# Altium schematic symbol library SILICA_SCHLIB.SchLib: 303 symbols (part 2 of 4)
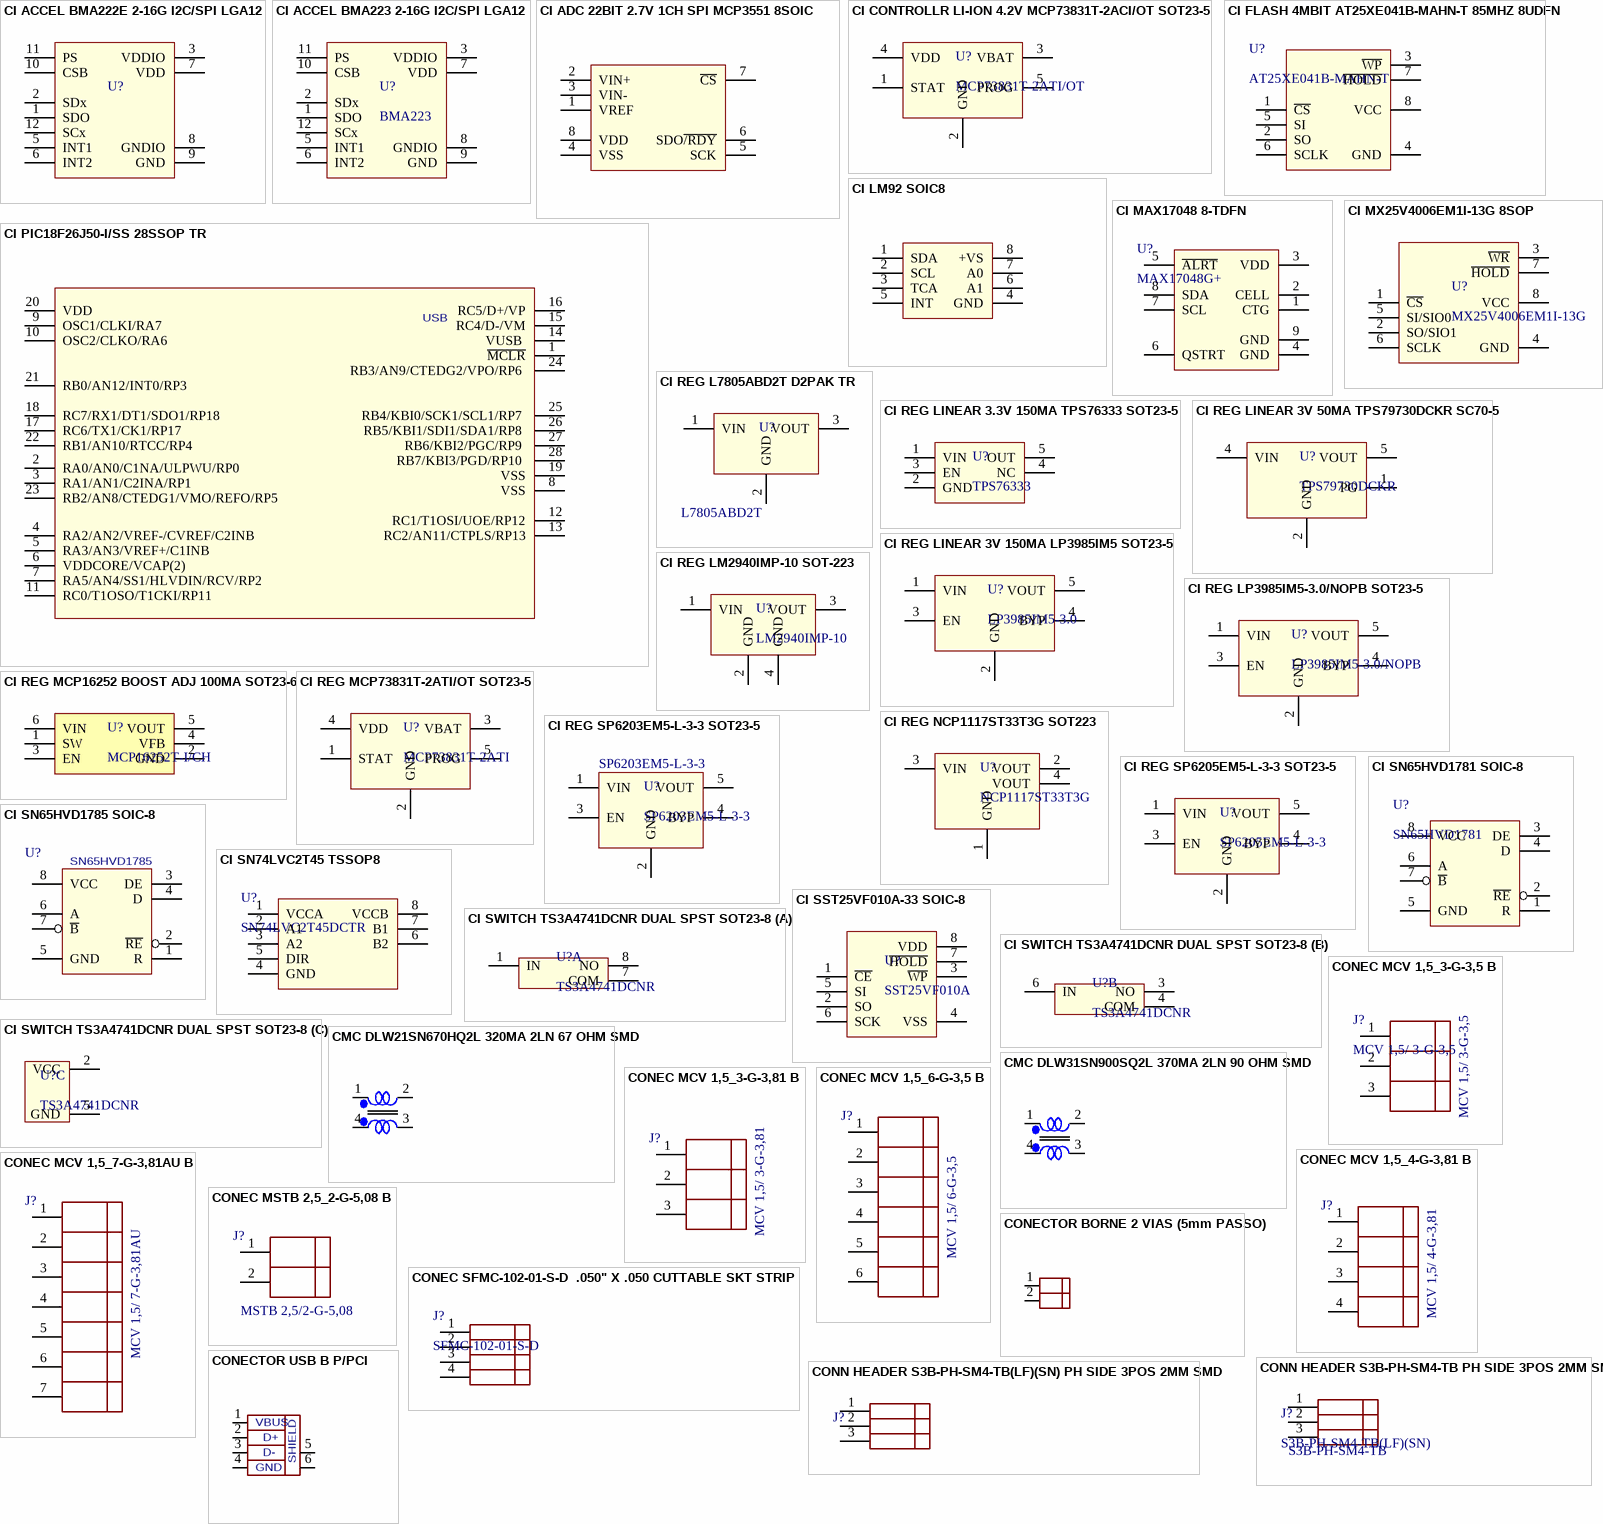
[diagram p10: symbols CI ACCEL BMA222E 2-16G I2C/SPI LGA12 to CONN HEADER S3B-PH-SM4-TB(LF)(SN) PH SIDE 3POS 2MM SMD]

## CMC DLW21SN670HQ2L 320MA 2LN 67 OHM SMD
designator L?, comment DLW21SN670HQ2L
Common Mode Choke Coil Wire Wound Type; Supplier 1: Digi-Key; Supplier 2: Digi-Key; Supplier 3: Digi-Key; Supplier Part Number 1: 490-5133-6-ND; Supplier Part Number 2: 490-5133-1-ND; Supplier Part Number 3: 490-5133-2-ND
footprint SMD_DLW21S (DLW21S Series (0805 Size))
pins: 1, 2, 3, 4

## CMC DLW31SN900SQ2L 370MA 2LN 90 OHM SMD
designator L?, comment DLW31SN900SQ2L
2 Line Common Mode Choke Surface Mount 90 Ohm @ 100MHz 370mA DCR 300 mOhm; Manufacturer 1: Hirose Electric Co Ltd; Manufacturer Part Number 1: U.FL-R-SMT-1(01); Supplier 1: Digi-Key; Supplier 2: Digi-Key; Supplier 3: Digi-Key; Supplier 4: Mouser; Supplier 5: Arrow; Supplier Part Number 5: DLW31SN900SQ2L; Supplier Part Number 4: 81-DLW31SN900SQ2L; Supplier Part Number 3: 490-1067-2-ND; Supplier Part Number 2: 490-1067-6-ND; Supplier Part Number 1: 490-1067-1-ND; Value: DLW31SN900SQ2L
footprint SMD_DLW31S (DLW31S Series)
pins: 1, 2, 3, 4

## CONEC MCV 1,5_3-G-3,5 B
designator J?, comment MCV 1,5/ 3-G-3,5
3 Position Terminal Block Header, Male Pins, Shrouded (4 Side) 0.138" (3.50mm) Vertical  Through Hole; Manufacturer 1: Phoenix Contact; Manufacturer Part Number 1: 1843619; TYPE: MCV 1,5/ 3-G-3,5
footprint MCV 1,5_3-G-3,5
pins: 1, 2, 3

## CONEC MCV 1,5_3-G-3,81 B
designator J?  TYPE: MCV 1,5/ 3-G-3,81  (hidden comment: *)
MANUFACTURER: PHOENIX CONTACT; PN: 1803439; PACKING: B; PACKAGE: MCV 1,5/ 3-G-3,81; Supplier 1: Digi-Key; Supplier Part Number 1: 277-1222-ND
footprint MCV 1,5_3-G-3,81
footprint MCV 1,5_3-G-3,81 THR
pins: 1, 2, 3

## CONEC MCV 1,5_4-G-3,81 B
designator J?  TYPE: MCV 1,5/ 4-G-3,81  (hidden comment: *)
MANUFACTURER: PHOENIX CONTACT; PN: 1803442; PACKING: B; PACKAGE: MCV 1,5/ 4-G-3,81; Supplier 1: Digi-Key; Supplier Part Number 1: 277-1223-ND
footprint MCV 1,5_4-G-3,81
footprint MCV 1,5_4-G-3,81 THR
pins: 1, 2, 3, 4

## CONEC MCV 1,5_6-G-3,5 B
designator J?  TYPE: MCV 1,5/ 6-G-3,5  (hidden comment: *)
MANUFACTURER: PHOENIX CONTACT; PN: 1843648; PACKING: B; PACKAGE: MCV 1,5/ 6-G-3,5; Supplier 1: Mouser; Supplier Part Number 1: 651-1843648
footprint MCV 1,5_6-G-3,5
footprint MCV 1,5_6-G-3,5 THR
pins: 1, 2, 3, 4, 5, 6

## CONEC MCV 1,5_7-G-3,81AU B
designator J?  TYPE: MCV 1,5/ 7-G-3,81AU  (hidden comment: *)
MANUFACTURER: PHOENIX CONTACT; PN: 1939895; PACKING: B; PACKAGE: MCV 1,5/ 7-G-3,81AU
footprint MCV 1,5_7-G-3,81
pins: 1, 2, 3, 4, 5, 6, 7

## CONEC MSTB 2,5_2-G-5,08 B
designator J?  TYPE: MSTB 2,5/2-G-5,08  (hidden comment: *)
MANUFACTURER: PHOENIX CONTACT; PN: 1759017; PACKING: B; PACKAGE: MSTB 2,5/2-G-5,08; Supplier 1: Digi-Key; Supplier Part Number 1: 277-1095-ND
footprint MSTB 2,5_2-G-5,08 (Footprint not found)
pins: 1, 2

## CONEC SFMC-102-01-S-D  .050" X .050 CUTTABLE SKT STRIP
designator J?, comment SFMC-102-01-S-D
4 Position Receptacle Connector  Through Hole; Manufacturer 1: Samtec Inc.; VALUE: SFMC-102-01-S-D; Manufacturer Part Number 1: SFMC-102-01-S-D; Supplier 1: Digi-Key; Supplier 2: Farnell; Supplier 3: Mouser; Supplier 4: Arrow Electronics Inc.; Supplier 5: Newark; Supplier Part Number 1: SAM9900-ND; Supplier Part Number 2: 2779535; Supplier Part Number 3: 200-SFMC10201SD; Supplier Part Number 4: SFMC-102-01-S-D; Supplier Part Number 5: 33AC3092
footprint SFMC-102-01-S-D
pins: 1, 2, 3, 4

## CONECTOR BORNE 2 VIAS (5mm PASSO)
designator J?, comment KRE-2T  (value not drawn)
CONECTOR BORNE 2 VIAS (5mm PASSO); METALTEX: BR02A
footprint BR11 METALTEX
pins: 1, 2

## CONECTOR USB B P/PCI
designator J?, comment USB-BN  (value not drawn)
CONECTOR USB B P/PCI; METALTEX: USB-BN
pins: 1, 2, 3, 4, 5, 6
text: VBUS; D+; D-; SHIELD; GND

## CONN HEADER S3B-PH-SM4-TB PH SIDE 3POS 2MM SMD
designator J?, comment S3B-PH-SM4-TB(LF)(SN)  value S3B-PH-SM4-TB
4 Position Socket Connector 0.031" (0.80mm) Surface Mount, Right Angle Tin; Supplier 1: Newark; Supplier 2: Farnell; Supplier 3: Digi-Key; Supplier 4: Digi-Key; Supplier 5: Digi-Key; Supplier 6: RSComponents; Supplier 7: RSComponents; Supplier 8: RSComponents; Supplier 9: Allied; Supplier 10: RSComponents; Supplier Part Number 1: 38K8071; Supplier Part Number 2: 9492623; Supplier Part Number 3: 455-1750-2-ND; Supplier Part Number 4: 455-1750-1-ND; Supplier Part Number 5: 455-1750-6-ND; Supplier Part Number 6: 688-1357P; Supplier Part Number 7: 688-1357; Supplier Part Number 8: 6881357; Supplier Part Number 9: R1044573; Supplier Part Number 10: 6881357P
footprint S3B-PH-SM4-TB (3 Positions Header Connector 0.079" (2.00mm) Surface Mount, Right Angle Tin)
pins: 1, 2, 3

## CONN HEADER S3B-PH-SM4-TB(LF)(SN) PH SIDE 3POS 2MM SMD
designator J?, comment S3B-PH-SM4-TB(LF)(SN)  (value not drawn)
Connector Header Surface Mount, Right Angle 3 position 0.079" (2.00mm); Manufacturer 1: JST Sales America Inc.; VALUE: S3B-PH-SM4-TB(LF)(SN); Manufacturer Part Number 1: S3B-PH-SM4-TB(LF)(SN); Supplier 1: Arrow Electronics Inc.; Supplier 2: Digi-Key; Supplier 3: Digi-Key; Supplier Part Number 3: 455-1750-1-ND; Supplier Part Number 2: 455-1750-2-ND; Supplier Part Number 1: S3B-PH-SM4-TB (LF)(SN)
footprint S3B-PH-SM4-TB (3 Positions Header Connector 0.079" (2.00mm) Surface Mount, Right Angle Tin)
pins: 1, 2, 3

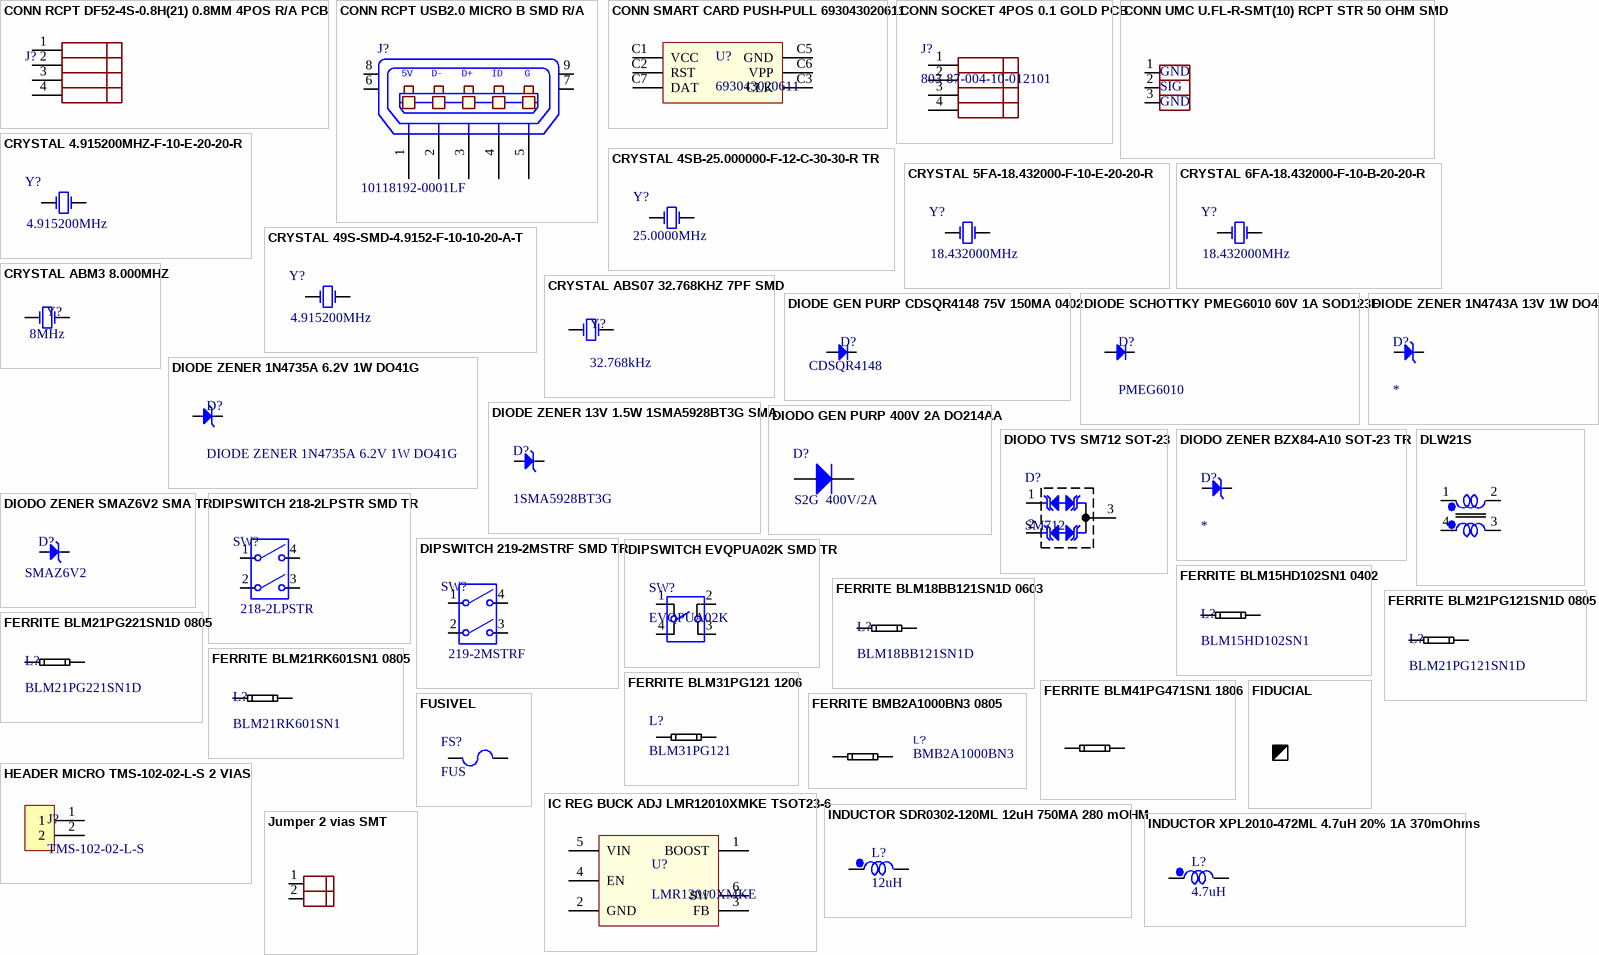
[diagram p3: symbols CONN RCPT DF52-4S-0.8H(21) 0.8MM 4POS R/A PCB to Jumper 2 vias SMT]

## CONN RCPT DF52-4S-0.8H(21) 0.8MM 4POS R/A PCB
designator J?, comment DF52-4S-0.8H(21)  (value not drawn)
4 Position Socket Connector 0.031" (0.80mm) Surface Mount, Right Angle Tin; VALUE: DF52-4S-0.8H(21); Supplier 1: Digi-Key; Supplier 2: Digi-Key; Supplier 3: Digi-Key; Supplier Part Number 1: H125098TR-ND; Supplier Part Number 2: H125098CT-ND; Supplier Part Number 3: H125098DKR-ND
footprint DF52-4S-0.8H(21)
pins: 1, 2, 3, 4

## CONN RCPT USB2.0 MICRO B SMD R/A
designator J?, comment value 10118192-0001LF  (hidden comment: USB2.0 MICRO B)
USB - micro B USB 2.0 Receptacle Connector 5 Position Surface Mount, Right Angle; Manufacturer 1: Amphenol ICC (FCI); Manufacturer Part Number 1: 10118192-0001LF; Supplier 1: Mouser; Supplier Part Number 1: 649-10118192-0001LF
footprint USB_MICRO_AB
pins: 1 P1, 2 P2, 3 P3, 4 P4, 5 P5, 6, 7, 8, 9
text: 5V; D-; D+; ID; G

## CONN SMART CARD PUSH-PULL 693043020611
designator U?, comment 693043020611
6 Position Card Connector NANO SIM Surface Mount, Right Angle Gold; Manufacturer 1: Wurth Electronics Inc.; VALUE: 693043020611; Supplier 1: Farnell; Supplier 2: Newark; Supplier 3: Digi-Key; Supplier 4: Digi-Key; Supplier 5: Digi-Key; Supplier 6: Farnell; Supplier 7: Newark; Supplier Part Number 1: 2470827; Supplier Part Number 2: 46Y2832; Supplier Part Number 3: 732-5954-2-ND; Supplier Part Number 4: 732-5954-1-ND; Supplier Part Number 5: 732-5954-6-ND; Supplier Part Number 6: 2470836; Supplier Part Number 7: 52Y1273; Manufacturer Part Number 1: 693043020611
footprint 693043020611 (NANO SIM - PUSH & PULL TYPE - 6 PINS)
pins: C1 VCC, C2 RST, C3 CLK, C5 GND, C6 VPP, C7 DAT

## CONN SOCKET 4POS 0.1 GOLD PCB
designator J?, comment 803-87-004-10-012101
4 Position Socket Connector 0.100" (2.54mm) Through Hole Gold; Manufacturer 1: Preci-Dip; VALUE: 803-87-004-10-012101; Manufacturer Part Number 1: 803-87-004-10-012101
footprint 803-87-004-10-012101
pins: 1, 2, 3, 4

## CONN UMC U.FL-R-SMT(10) RCPT STR 50 OHM SMD
designator J?, comment U.FL-R-SMT(10)  Supplier Part Number 1: H122041-ND  Supplier Part Number 2: 798-UFLRSMT101
U.FL (UMCC) Connector Receptacle, Male Pin 50 Ohm Surface Mount Solder; Manufacturer 1: Hirose Electric Co Ltd; Manufacturer Part Number 1: U.FL-R-SMT-1(01); Value: U.FL-R-SMT-1(01); Supplier 1: Digi-Key; Supplier 2: Mouser
footprint U.FL-R-SMT
pins: 1 GND, 2 SIG, 3 GND

## CRYSTAL 4.915200MHZ-F-10-E-20-20-R
designator Y?  value 4.915200MHz  (hidden comment: CRYSTAL 4.915200MHZ-F-10-E-20-20-R)
MANUFACTURER: HOSONIC; ERPCODE: 0018369; PACKING: TR; PN: SB-4.915200-F-10-E-20-20-R; PACKAGE: SMD; TYPE: Cristal SMD
footprint HC-49SMA (SURFACE MOUNT CRYSTAL)
pins: 1 OSC1, 2 OSC2

## CRYSTAL 4SB-25.000000-F-12-C-30-30-R TR
designator Y?, comment 25.0000MHz
CRISTAL 4SB-25.000000-F-12-C-30-30-R TR
footprint HCX-4SB (Cristal de Quartzo em SMD)
pins: 1 OSC1, 3 OSC2

## CRYSTAL 5FA-18.432000-F-10-E-20-20-R
designator Y?  value 18.432000MHz  (hidden comment: CRYSTAL 5FA-18.432000-F-10-E-20-20-R)
MANUFACTURER: SHOULDER; ERPCODE: 0023370; PACKING: TR; PACKAGE: SMD; TYPE: Cristal SMD; PN: 5FA-18.432000-F-10-E-20-20-R
footprint HCX-5FA (SURFACE MOUNT CRYSTAL)
pins: 1 OSC1, 2 OSC2

## CRYSTAL 6FA-18.432000-F-10-B-20-20-R
designator Y?  value 18.432000MHz  (hidden comment: CRYSTAL 6FA-18.432000-F-10-B-20-20-R)
MANUFACTURER: HOSONIC; ERPCODE: 0018367; PACKING: TR; PACKAGE: SMD; TYPE: Cristal SMD; PN: 6FA-18.432000-F-10-B-20-20-R
footprint HCX-6FA (SURFACE MOUNT CRYSTAL)
pins: 1 OSC1, 2 OSC2

## CRYSTAL 49S-SMD-4.9152-F-10-10-20-A-T
designator Y?  value 4.915200MHz  (hidden comment: CRYSTAL 49S-SMD-4.9152-F-10-10-20-A-T)
MANUFACTURER: SHOULDER; ERPCODE: 0032009; PACKING: TR; PACKAGE: SMD; TYPE: Cristal SMD; PN: 49S-SMD-4.9152-F-10-10-20-A-T
footprint HC-49SB (LOW PROFILE HOLDER TYPE CRYSTAL UNITS)
pins: 1 OSC1, 2 OSC2

## CRYSTAL ABM3 8.000MHZ
designator Y?, comment 8MHz
8MHz ±20ppm Crystal 18pF 140 Ohm -40°C ~ 85°C Surface Mount 2-SMD, No Lead; Manufacturer 1: Abracon LLC; Manufacturer Part Number 1: ABM3-8.000MHZ-D2Y-T; Supplier 1: Digi-Key; Supplier 2: Farnell; Supplier 3: Farnell; Supplier 4: Digi-Key; Supplier 5: Newark; Supplier 6: Farnell; Supplier 7: Newark; Supplier 8: Digi-Key; Supplier 9: Farnell; Supplier 10: Newark; Supplier Part Number 1: 535-10630-2-ND; Supplier Part Number 2: 2367927; Supplier Part Number 3: 2101329RL; Supplier Part Number 4: 535-10630-1-ND; Supplier Part Number 5: 06X4672; Supplier Part Number 6: 2101329; Supplier Part Number 7: 76R7536; Supplier Part Number 8: 535-10630-6-ND; Supplier Part Number 9: 2101337; Supplier Part Number 10: 77R1485; VALUE: 8MHz
footprint ABM3 (MINIATURE CERAMIC SMD CRYSTAL)
pins: 1 OSC1, 2 OSC2

## CRYSTAL ABS07 32.768KHZ 7PF SMD
designator Y?, comment 32.768kHz
32.768kHz ±20ppm Crystal 7pF 70 kOhms 2-SMD, No Lead; Manufacturer 1: Abracon LLC; Manufacturer Part Number 1: ABS07-32.768KHZ-7-T; VALUE: 32.768kHz; Supplier 1: Digi-Key; Supplier 2: Digi-Key; Supplier 3: Digi-Key; Supplier 4: Future Electronics; Supplier 5: Future Electronics; Supplier 6: Farnell; Supplier 7: Farnell; Supplier 8: Mouser; Supplier 9: Avnet; Supplier 10: Arrow; Supplier 11: RSComponents; Supplier 12: RSComponents; Supplier 13: Avnet; Supplier 14: Avnet; Supplier 15: Newark; Supplier 16: Newark; Supplier 17: Newark; Supplier 18: Allied Electronics; Supplier 19: Arrow; Supplier 20: Avnet; Supplier 21: Avnet; Supplier 22: Farnell; Supplier 23: Future Electronics; Supplier 24: Future Electronics; Supplier 25: Future Electronics; Supplier Part Number 1: 535-9543-1-ND; Supplier Part Number 10: ABS07-32.768KHZ-7-T; Supplier Part Number 11: 1712773; Supplier Part Number 12: 1712307; Supplier Part Number 13: 14N8750; Supplier Part Number 14: 89M4970; Supplier Part Number 15: 14N8750; Supplier Part Number 16: 89M4970; Supplier Part Number 17: 25AC5632; Supplier Part Number 18: 71528070; Supplier Part Number 19: ABS07-32.768KHZ-7-T**MULT; Supplier Part Number 2: 535-9543-6-ND; Supplier Part Number 20: ABS07-32.768>>>; Supplier Part Number 21: ABS07-32.768KHZ-7-T/BKN; Supplier Part Number 22: 1838935RL; Supplier Part Number 23: ABS07-32.768KHZ-7-T; Supplier Part Number 9: ABS07-32.768KHZ-7-T; Supplier Part Number 8: 815-ABS07-32.768K7T; Supplier Part Number 7: 1833022; Supplier Part Number 6: 1838935; Supplier Part Number 5: ABS07-32.768KHZ-7-T-CUTT; Supplier Part Number 4: ABS07-32.768KHZ-7-T-REEL; Supplier Part Number 3: 535-9543-2-ND; Supplier Part Number 25: 6065130; Supplier Part Number 24: 8133308
footprint ABS07 (MINIATURE CERAMIC SMD CRYSTAL)
pins: 1 OSC1, 2 OSC2

## DIODE GEN PURP CDSQR4148 75V 150MA 0402
designator D?, comment CDSQR4148
Diode Standard 75V 150mA Surface Mount 0402/SOD-923F; Manufacturer 1: Comchip Technology; Manufacturer Part Number 1: CDSQR4148; Supplier 1: Digi-Key; Supplier 2: Digi-Key; Supplier 3: Digi-Key; Supplier 4: Mouser; Supplier 5: Arrow Electronics Inc.; Supplier 6: Allied Electronics; Supplier Part Number 6: 70426693; Supplier Part Number 5: CDSQR4148; Supplier Part Number 4: 750-CDSQR4148; Supplier Part Number 3: 641-1287-2-ND; Supplier Part Number 2: 641-1287-6-ND; Supplier Part Number 1: 641-1287-1-ND; VALUE: CDSQR4148
footprint SOD-923F
pins: 1 A, 2 K

## DIODE SCHOTTKY PMEG6010 60V 1A SOD123F
designator D?, comment PMEG6010
Diode Schottky 60V 1A (DC) Surface Mount SOD-123F; Manufacturer 1: Nexperia USA Inc.; Part Number 1: PMEG6010CEH,115; VALUE: PMEG6010
footprint SOD123F
pins: 1 A, 2 K

## DIODE ZENER 1N4735A 6.2V 1W DO41G
designator D?
Diodo Zener 6,2V / 1W; FARCHILD: 1N4735A; Supplier 1: Newark; Supplier 2: Digi-Key; Supplier 3: Allied; Supplier 4: Digi-Key; Supplier 5: Newark; Supplier 6: Farnell; Supplier 7: Newark; Supplier 8: Allied; Supplier 9: Farnell; Supplier 10: Digi-Key; Supplier 11: Farnell; Supplier 12: Farnell; Supplier 13: Farnell; Supplier 14: Newark; Supplier 15: Newark; Supplier 16: Farnell; Supplier 17: Digi-Key; Supplier 18: Digi-Key; Supplier 19: Digi-Key; Supplier 20: Digi-Key; Supplier 21: Farnell; Supplier 22: Newark; Supplier 23: Newark; Supplier 24: Newark; Supplier 25: Farnell; Supplier 26: Digi-Key; Supplier 27: Newark; Supplier 28: Newark; Supplier 29: Farnell; Supplier 30: Digi-Key; Supplier 31: Farnell; Supplier 32: Digi-Key; Supplier Part Number 1: 06M7371; Supplier Part Number 2: 1N4735A-TPTR-ND; Supplier Part Number 3: 70061975; Supplier Part Number 4: 1N4735AVSTR-ND; Supplier Part Number 5: 75R5240; Supplier Part Number 6: 1612364; Supplier Part Number 7: 18C8951; Supplier Part Number 8: 70061609; Supplier Part Number 9: 1504412; Supplier Part Number 10: 1N4735AVSCT-ND; Supplier Part Number 11: 2453286; Supplier Part Number 12: 4398786; Supplier Part Number 13: 1861449RL; Supplier Part Number 14: 95B4975; Supplier Part Number 15: 90R9422; Supplier Part Number 16: 2371129; Supplier Part Number 17: 1N4735AFS-ND; Supplier Part Number 18: 1N4735A_T50AFSCT-ND; Supplier Part Number 19: 1N4735A_T50AFSTB-ND; Supplier Part Number 20: 1727-4226-2-ND; Supplier Part Number 21: 1861449; Supplier Part Number 22: 33C2778; Supplier Part Number 23: 70R9667; Supplier Part Number 24: 29X4298; Supplier Part Number 25: 2164384; Supplier Part Number 26: 1N4735A-TPCT-ND; Supplier Part Number 27: 55R1226; Supplier Part Number 28: 33C7706; Supplier Part Number 29: 1383696; Supplier Part Number 30: 1N4735AFSTR-ND; Supplier Part Number 31: 1788232; Supplier Part Number 32: 1N4735AFSCT-ND
footprint DO-41
pins: A, K

## DIODE ZENER 1N4743A 13V 1W DO41
designator D?
Zener Diode 1W ±5% Through Hole DO-41; FARCHILD: 1N4743A; Supplier 1: Newark; Supplier 2: Newark; Supplier 3: Newark; Supplier 4: Digi-Key; Supplier 5: Digi-Key; Supplier 6: Allied; Supplier 7: Digi-Key; Supplier 8: Digi-Key; Supplier 9: Farnell; Supplier 10: Farnell; Supplier 11: Farnell; Supplier 12: Farnell; Supplier 13: Digi-Key; Supplier 14: Newark; Supplier 15: Allied; Supplier 16: Digi-Key; Supplier 17: Farnell; Supplier 18: Farnell; Supplier 19: Farnell; Supplier 20: Digi-Key; Supplier 21: Farnell; Supplier 22: Digi-Key; Supplier 23: Newark; Supplier 24: Newark; Supplier 25: Farnell; Supplier 26: Digi-Key; Supplier 27: Farnell; Supplier 28: Digi-Key; Supplier Part Number 1: 33C2791; Supplier Part Number 2: 90R9430; Supplier Part Number 3: 83C2541; Supplier Part Number 4: 1N4743AVSCT-ND; Supplier Part Number 5: 1034-1N4743ADITR-ND; Supplier Part Number 6: 70061982; Supplier Part Number 7: 1N4743AFSCT-ND; Supplier Part Number 8: 1034-1N4743ADIDKR-ND; Supplier Part Number 9: 1612406; Supplier Part Number 10: 2453731; Supplier Part Number 11: 9844082; Supplier Part Number 12: 2453731RL; Supplier Part Number 13: 1N4743AVSTR-ND; Supplier Part Number 14: 29X4306; Supplier Part Number 15: 70061617; Supplier Part Number 16: 1N4743A CT-ND; Supplier Part Number 17: 2127072; Supplier Part Number 18: 1577964; Supplier Part Number 19: 1621619; Supplier Part Number 20: 1N4743AFSTR-ND; Supplier Part Number 21: 2413234; Supplier Part Number 22: 1034-1N4743ADICT-ND; Supplier Part Number 23: 22H4343; Supplier Part Number 24: 31Y5540; Supplier Part Number 25: 5223738; Supplier Part Number 26: 1N4743A TR-ND; Supplier Part Number 27: 9558080; Supplier Part Number 28: 1N4743A-ND
footprint DO-41
pins: A, K

## DIODE ZENER 13V 1.5W 1SMA5928BT3G SMA
designator D?, comment 1SMA5928BT3G
Zener Diode 13V 1.5W ±5% Surface Mount SMA; Manufacturer 1: ON SEMICONDUCTOR; Supplier 1: Digi-Key; Supplier Part Number 1: 1SMA5928BT3GOSTR-ND; Part Number 1: 1SMA5928BT3G; Value: 1SMA5928BT3G
footprint SMA
pins: 1 K, 2 A

## DIODO GEN PURP 400V 2A DO214AA
designator D?, comment value S2G  400V/2A  (hidden comment: S2G)
Supplier 1: Digi-Key; Supplier 2: Digi-Key; Supplier 3: Mouser; Supplier 4: Digi-Key; Supplier 5: Digi-Key; Supplier 6: Digi-Key; Supplier 7: Digi-Key; Supplier 8: Digi-Key; Supplier 9: Digi-Key; Supplier 10: Digi-Key; Supplier 11: Digi-Key; Supplier Part Number 1: MURS140-E3/5BTGICT-ND; Supplier Part Number 2: ES2G-E3/52TGICT-ND; Supplier Part Number 3: 750-CGRB204-G; Supplier Part Number 4: S2GFSTR-ND; Supplier Part Number 5: MURS140-E3/52TGICT-ND; Supplier Part Number 6: S2GFSCT-ND; Supplier Part Number 7: MURS140-E3/5BTGITR-ND; Supplier Part Number 8: ES2G-E3/52TGITR-ND; Supplier Part Number 9: MURS140-E3/52TGIDKR-ND; Supplier Part Number 10: S2GFSDKR-ND; Supplier Part Number 11: MURS140-E3/52TGITR-ND
footprint DO-214AA
pins: 1 K, 2 A

## DIODO TVS SM712 SOT-23
designator D?, comment SM712
Asymmetrical TVS Diode for Extended Common-Mode RS-485; Manufacturer 1: Semtech Corporation; Part Number 1: SM712.TCT; VALUE: SM712
footprint SOT23-3 (SOT23, 3-Leads, Body 3,0x2,5mm (max), Pitch 0,83mm, IPC Medium Density)
pins: 1 IO1, 2 IO2, 3 COMMON

## DIODO ZENER BZX84-A10 SOT-23 TR
designator D?
DIODO ZENER BZX84-A10 SOT-23 TR; Supplier 1: Digi-Key; Supplier Part Number 1: 568-6802-2-ND
footprint SOT23-3 (SOT23, 3-Leads, Body 3,0x2,5mm (max), Pitch 0,83mm, IPC Medium Density)
pins: 1 A, 3 K

## DIODO ZENER SMAZ6V2 SMA TR
designator D?, comment SMAZ6V2
DIODO ZENER SMAZ6V2 SMA TR; Supplier 1: Mouser; Supplier 2: Newark; Supplier 3: Mouser; Supplier 4: Digi-Key; Supplier 5: Digi-Key; Supplier Part Number 1: 833-SMAZ6V2-TP; Supplier Part Number 2: 51T5000; Supplier Part Number 3: 621-SMAZ6V2-13-F; Supplier Part Number 4: SMAZ6V2-FDICT-ND; Supplier Part Number 5: SMAZ6V2-FDITR-ND; Value: SMAZ6V2
footprint SMA
pins: 1 K, 2 A

## DIPSWITCH 218-2LPSTR SMD TR
designator SW?  value 218-2LPSTR  (hidden comment: *)
MANUFACTURER: CTS CORP.; PACKING: TR; PN: 218-2LPSTR; PACKAGE: SMD; TYPE: DIP SWITCH SMD
footprint CTS 218-2LP (Half Pitch, SMD DIP Switch)
pins: 1 COMMON1, 2 COMMON2, 3 NO2, 4 NO1

## DIPSWITCH 219-2MSTRF SMD TR
designator SW?  value 219-2MSTRF  (hidden comment: *)
MANUFACTURER: CTS CORP.; PACKING: TR; PN: 219-2MSTRF; PACKAGE: SMD; TYPE: DIP SWITCH SMD
footprint CTS 219-2LP (SMD DIP Switch)
pins: 1 COMMON1, 2 COMMON2, 3 NO2, 4 NO1

## DIPSWITCH EVQPUA02K SMD TR
designator SW?, comment EVQPUA02K
Tactile Switches SIDE PUSH 2.2NF 4.7x3.2x1.65mm; Manufacturer 1: Panasonic Electronic Components; Manufacturer Part Number 1: EVQ-PUA02K; VALUE: EVQPUA02K; Supplier 1: Allied; Supplier 2: Digi-Key; Supplier 3: Newark; Supplier 4: Digi-Key; Supplier 5: Farnell; Supplier 6: Digi-Key; Supplier Part Number 1: 70270721; Supplier Part Number 2: P10847SCT-ND; Supplier Part Number 3: 52W2506; Supplier Part Number 4: P10847STR-ND; Supplier Part Number 5: 2284608; Supplier Part Number 6: P10847SDKR-ND
footprint EVQPUA02K
pins: 1 NO1, 2 NO2, 3 NO2, 4 NO1

## DLW21S
designator L?
Common Mode Choke Coil Wire Wound Type; Supplier 1: Digi-Key; Supplier 2: Digi-Key; Supplier 3: Digi-Key; Supplier Part Number 1: 490-5133-2-ND; Supplier Part Number 2: 490-5133-1-ND; Supplier Part Number 3: 490-5133-6-ND
footprint SMD_DLW21S (DLW21S Series (0805 Size))
pins: 1, 2, 3, 4

## FERRITE BLM15HD102SN1 0402
designator L?, comment BLM15HD102SN1
1 kOhms @ 100MHz 1 Signal Line Ferrite Bead 0402 (1005 Metric) 250mA 1.25Ohm; MANUFACTURER: MURATA; Manufacturer 1: Murata Electronics North America; Manufacturer Part Number 1: BLM15HD102SN1D; PACKING: TR; TYPE: Ferrite SMD; Value: BLM15HD102SN1; Supplier 1: Farnell; Supplier 2: Newark; Supplier 3: Digi-Key; Supplier 4: Digi-Key; Supplier 5: Digi-Key; Supplier 6: Farnell; Supplier Part Number 1: 1515785; Supplier Part Number 2: 73M9045; Supplier Part Number 3: 490-4003-2-ND; Supplier Part Number 4: 490-4003-1-ND; Supplier Part Number 5: 490-4003-6-ND; Supplier Part Number 6: 1515785RL
footprint SMD_0402
pins: 1, 2

## FERRITE BLM18BB121SN1D 0603
designator L?, comment BLM18BB121SN1D
120 Ohms @ 100MHz 1 Signal Line Ferrite Bead 0603 (1608 Metric) 500mA 300mOhm; Manufacturer 1: Murata Electronics North America; Part Number 1: BLM18BB121SN1D
footprint SMD_0603 (General SMD 0603 footprint)
pins: 1, 2

## FERRITE BLM21PG121SN1D 0805
designator L?, comment BLM21PG121SN1D
120 Ohms @ 100MHz 1 Power Line Ferrite Bead 0805 (2012 Metric) 3A 30mOhm; Manufacturer 1: Murata Electronics North America; Manufacturer Part Number 1: BLM21PG121SN1D
footprint SMD_0805 (Generic 0805 SMD footprint)
pins: 1, 2

## FERRITE BLM21PG221SN1D 0805
designator L?, comment BLM21PG221SN1D
220 Ohms @ 100MHz 1 Power Line Ferrite Bead 0805 (2012 Metric) 2A 45mOhm; Manufacturer 1: Murata Electronics North America; Part Number 1: BLM21PG221SN1D
footprint SMD_0805 (Generic 0805 SMD footprint)
pins: 1, 2

## FERRITE BLM21RK601SN1 0805
designator L?, comment BLM21RK601SN1
600 Ohms @ 100MHz 1  Ferrite Bead 0805 (2012 Metric) 200mA 300mOhm; Manufacturer 1: Murata Electronics North America; Manufacturer Part Number 1: BLM21RK601SN1D
footprint SMD_0805 (Generic 0805 SMD footprint)
pins: 1, 2

## FERRITE BLM31PG121 1206
designator L?, comment BLM31PG121
120 Ohms @ 100MHz 1 Power Line Ferrite Bead 1206 (3216 Metric) 3.5A 20mOhm; Manufacturer Part Number 1: BLM31PG121SN1L; Manufacturer 1: Murata Electronics North America
footprint SMD_1206 (General SMD 1206 footprint)
pins: 1, 2

## FERRITE BLM41PG471SN1 1806
designator L?, comment BLM41PG471SN1L
470 Ohms @ 100MHz 1 Power Line Ferrite Bead 1806 (4516 Metric) 2A 50mOhm; Manufacturer 1: Murata Electronics North America; Part Number 1: BLM41PG471SN1L
footprint BLM41P (EMIFIL chip ferrite bead)
pins: 1, 2

## FERRITE BMB2A1000BN3 0805
designator L?, comment BMB2A1000BN3
1 kOhms @ 100MHz 1  Ferrite Bead 0805 (2012 Metric) 200mA 800mOhm; Manufacturer 1: TE Connectivity Passive Product; TE CONNECTIVITY   SIGMA INDUCTORS: BMB2A1000BN3; Part Number 1: BMB2A1000BN3
footprint SMD_0805 (Generic 0805 SMD footprint)
pins: 1, 2

## FIDUCIAL
designator FD?  (no BOM)
Fiducial mark
footprint SMD_FIDU-ROUND
pins: 1 hidden

## FUSIVEL
designator FS?, comment FUS
FUSIVEL
footprint PCB FUSE 8mm PITCH
pins: 1, 2

## HEADER MICRO TMS-102-02-L-S 2 VIAS
designator J?, comment TMS-102-02-L-S
.050" (1.27MM) MICRO HDR; Supplier 1: Farnell; Supplier 2: Newark; Supplier 3: Digi-Key; Supplier 4: Digi-Key; Supplier 5: Newark; Supplier 6: Farnell; Supplier Part Number 1: 2054928; Supplier Part Number 2: 85T7183; Supplier Part Number 3: SAM10237-ND; Supplier Part Number 4: TMS-102-02-L-S-RA-ND; Supplier Part Number 5: 85T7184; Supplier Part Number 6: 2055105
pins: 1, 2

## IC REG BUCK ADJ LMR12010XMKE TSOT23-6
designator U?, comment LMR12010XMKE
Buck Switching Regulator IC Positive Adjustable 0.8V 1 Output 1A SOT-23-6 Thin, TSOT-23-6; Part Number 1: LMR12010XMKE/NOPB; Manufacturer 1: Texas Instruments; Datasheet: http://www.ti.com/lit/ds/symlink/lmr12010.pdf
footprint TSOT23-6 (TSOT23, 6-Leads, Body 2.90x2.80mm, Pitch 0.95mm, IPC Medium Density)
pins: 1 BOOST, 2 GND, 3 FB, 4 EN, 5 VIN, 6 SW

## INDUCTOR SDR0302-120ML 12uH 750MA 280 mOHM
designator L?, comment 12uH
12µH Unshielded Wirewound Inductor 750mA 280mOhm Max Nonstandard; Part Number 1: SDR0302-120ML; Manufacturer 1: Bourns Inc.; Value: SDR0302-120ML; Datasheet: https://www.bourns.com/docs/Product-Datasheets/SDR0302.pdf
footprint SDR0302 (SDR0302 Series - SMD Power Inductors)
pins: 1, 2

## INDUCTOR XPL2010-472ML 4.7uH 20% 1A 370mOhms
designator L?, comment 4.7uH
Fixed Inductors 4.7uH 20% 1A 370mOhms AEC-Q200; PartNumber1: XPL2010-472ML; Value: XPL2010-472ML; Datasheet: https://www.coilcraft.com/pdfs/xpl2010.pdf
footprint XPL2010 (Shielded Power Inductors - XPL2010 Series)
pins: 1, 2

## Jumper 2 vias SMT
designator J?
Jumper 2 vias SMT
footprint JMP SMD 10mil
footprint JUMPER 2 VIAS PTH
footprint JUMPER 2 VIAS SMT
pins: 1, 2

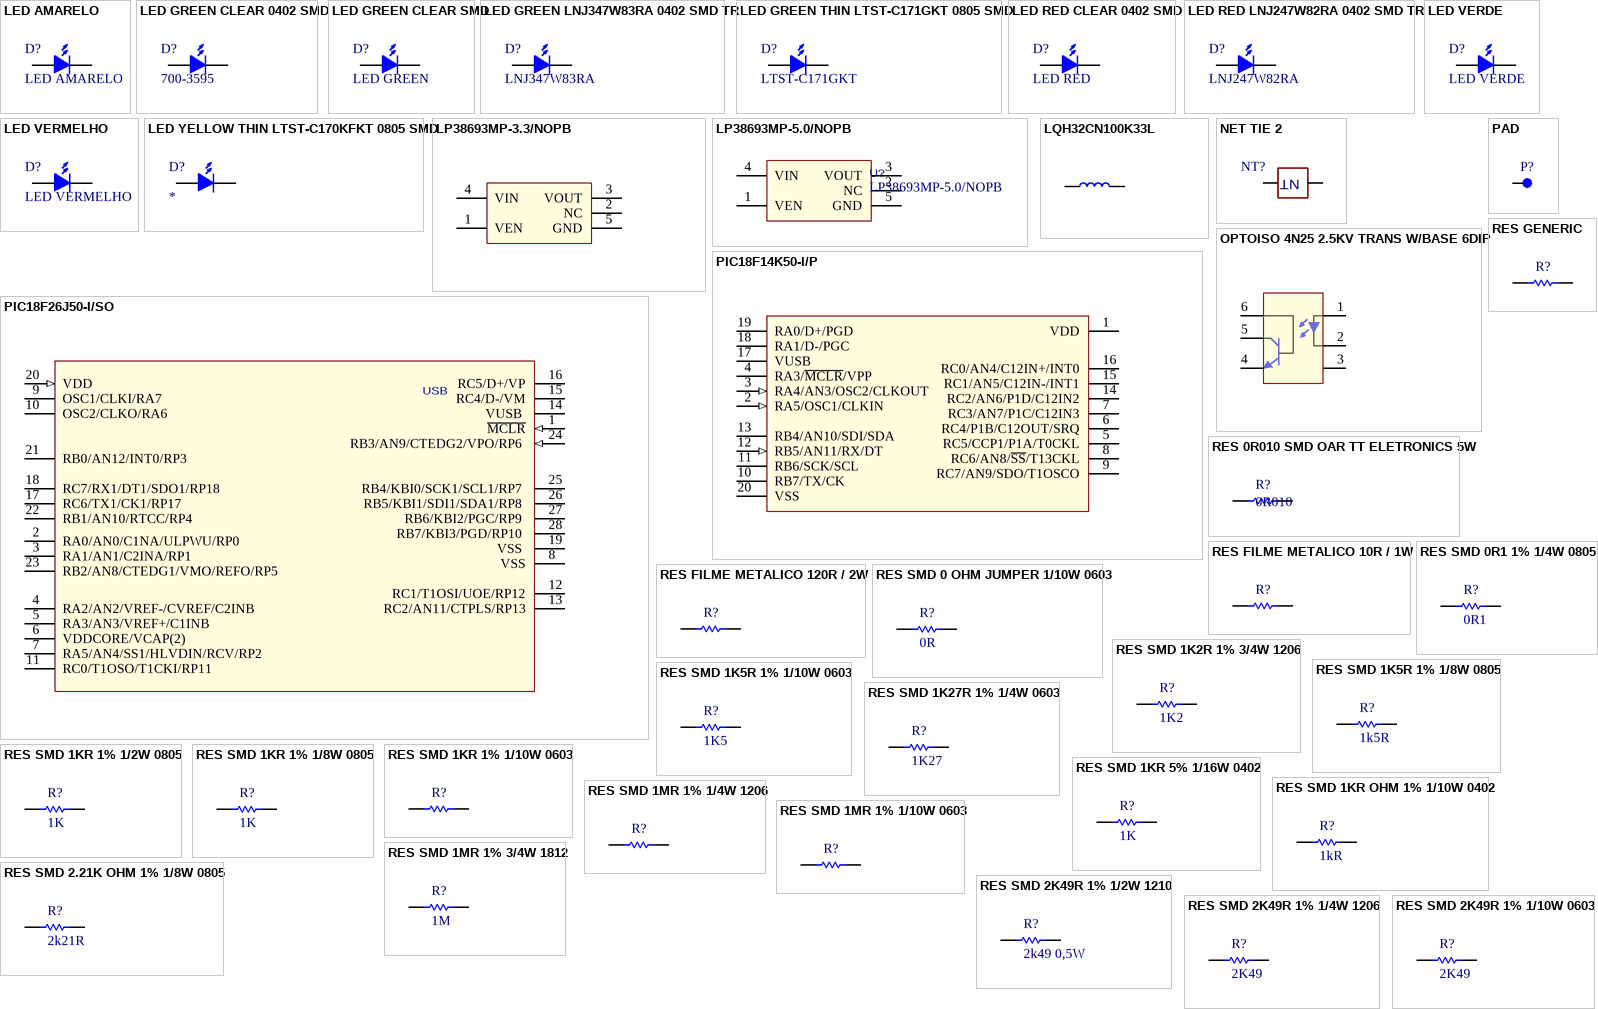
[diagram p4: symbols LED AMARELO to RES SMD 2K49R 1% 1/10W 0603]

## LED AMARELO
designator D?
footprint DIODE LED YELLOW 3mm PTH
pins: A, K

## LED GREEN CLEAR 0402 SMD
designator D?, comment 700-3595
Green 560nm LED Indication - Discrete 2.2V 0402 (1006 Metric); VALUE: 700-3595; Supplier 1: RSComponents; Supplier 2: RSComponents; Supplier 3: RSComponents; Supplier 4: RSComponents; Supplier 5: RSComponents; Supplier 6: RSComponents; Supplier 7: RSComponents; Supplier 8: RSComponents; Supplier 9: RSComponents; Supplier 10: RSComponents; Supplier 11: RSComponents; Supplier 12: RSComponents; Supplier 13: RSComponents; Supplier 14: RSComponents; Supplier 15: RSComponents; Supplier 16: RSComponents; Supplier 17: Digi-Key; Supplier 18: Digi-Key; Supplier 19: Digi-Key; Supplier 20: Digi-Key; Supplier 21: Digi-Key; Supplier 22: Digi-Key; Supplier 23: Digi-Key; Supplier 24: Digi-Key; Supplier 25: Digi-Key; Supplier Part Number 1: 700-3595; Supplier Part Number 2: 888-6007; Supplier Part Number 3: 7003564P; Supplier Part Number 4: 363285P; Supplier Part Number 5: 700-3564; Supplier Part Number 6: 7003564; Supplier Part Number 7: 700-3586P; Supplier Part Number 8: 700-3586; Supplier Part Number 9: 700-3564P; Supplier Part Number 10: 700-3595P; Supplier Part Number 11: 7003586P; Supplier Part Number 12: 7003586; Supplier Part Number 13: 7003595P; Supplier Part Number 14: 7003595; Supplier Part Number 15: 363285; Supplier Part Number 16: 2509609215; Supplier Part Number 17: 754-1815-2-ND; Supplier Part Number 18: 67-1881-2-ND; Supplier Part Number 19: 754-1101-1-ND; Supplier Part Number 20: 754-1815-1-ND; Supplier Part Number 21: 754-1503-6-ND; Supplier Part Number 22: 754-1101-6-ND; Supplier Part Number 23: 754-1815-6-ND; Supplier Part Number 24: 754-1503-1-ND; Supplier Part Number 25: 754-1503-2-ND
footprint LED_0402 - GREEN
pins: 1 A, 2 K

## LED GREEN CLEAR SMD
designator D?, comment LED GREEN
Green 570nm LED Indication - Discrete 2.1V 0402 (1005 Metric); Manufacturer 1: Kingbright; Manufacturer Part Number 1: APHHS1005CGCK; VALUE: LED GREEN
footprint LED_0402 - GREEN
pins: 1 A, 2 K

## LED GREEN LNJ347W83RA 0402 SMD TR
designator D?, comment LNJ347W83RA
Green 572nm LED Indication - Discrete 1.95V 0402 (1005 Metric); VALUE: LNJ347W83RA; Supplier 1: Newark; Supplier 2: RSComponents; Supplier 3: RSComponents; Supplier 4: Digi-Key; Supplier 5: Newark; Supplier 6: Digi-Key; Supplier 7: Allied; Supplier 8: RSComponents; Supplier 9: RSComponents; Supplier 10: Digi-Key; Supplier Part Number 1: 23AC6526; Supplier Part Number 2: 7870229; Supplier Part Number 3: 787-0229; Supplier Part Number 4: LNJ347W83RADKR-ND; Supplier Part Number 5: 66W2428; Supplier Part Number 6: LNJ347W83RATR-ND; Supplier Part Number 7: 70484169; Supplier Part Number 8: 787-0229P; Supplier Part Number 9: 7870229P; Supplier Part Number 10: LNJ347W83RACT-ND
footprint LED_0402 - GREEN
pins: 1 A, 2 K

## LED GREEN THIN LTST-C171GKT 0805 SMD
designator D?, comment LTST-C171GKT
Green 569nm LED Indication - Discrete 2.1V 0805 (2012 Metric); Manufacturer 1: Lite-On Inc.; Part Number 1: LTST-C171GKT
footprint SMD_0805 (Generic 0805 SMD footprint)
pins: 1 A, 2 K

## LED RED CLEAR 0402 SMD
designator D?, comment LED RED
Red 572nm LED Indication - Discrete 1.95V 0402 (1005 Metric); Manufacturer 1: Kingbright; Manufacturer Part Number 1: APHHS1005SURCK; VALUE: LED RED; Supplier 1: Digi-Key; Supplier 2: Digi-Key; Supplier 3: Digi-Key; Supplier 4: Mouser; Supplier 5: Allied Electronics; Supplier 6: Arrow; Supplier 7: Future Electronics; Supplier 8: Future Electronics; Supplier 9: Future Electronics; Supplier 10: Future Electronics; Supplier 11: Future Electronics; Supplier 12: RSComponents; Supplier Part Number 1: 754-1104-1-ND; Supplier Part Number 10: APHHS1005SURCK-CUTT; Supplier Part Number 2: 754-1104-6-ND; Supplier Part Number 3: 754-1104-2-ND; Supplier Part Number 4: 604-APHHS1005SURCK; Supplier Part Number 5: 70062833; Supplier Part Number 6: APHHS1005SURCK; Supplier Part Number 7: 3523412; Supplier Part Number 8: 1001170; Supplier Part Number 9: APHHS1005SURCK-REEL; Supplier Part Number 12: 890-1251; Supplier Part Number 11: APHHS1005SURCK
footprint LED_0402
pins: 1 A, 2 K

## LED RED LNJ247W82RA 0402 SMD TR
designator D?, comment LNJ247W82RA
Red 630nm LED Indication - Discrete 1.95V 0402 (1005 Metric); VALUE: LNJ247W82RA; Supplier 1: Newark; Supplier 2: Allied; Supplier 3: Digi-Key; Supplier 4: Digi-Key; Supplier 5: Digi-Key; Supplier Part Number 1: 66W2425; Supplier Part Number 2: 70484168; Supplier Part Number 3: LNJ247W82RATR-ND; Supplier Part Number 4: LNJ247W82RACT-ND; Supplier Part Number 5: LNJ247W82RADKR-ND
footprint LED_0402
pins: 1 A, 2 K

## LED VERDE
designator D?
footprint DIODE LED GREEN 3mm PTH
pins: A, K

## LED VERMELHO
designator D?
footprint DIODE LED RED 3mm PTH
pins: A, K

## LED YELLOW THIN LTST-C170KFKT 0805 SMD
designator D?
MANUFACTURER: LITE-ON INC; PACKING: TR; PN: LTST-C170KFKT; TYPE: SMD CAPACITOR; Supplier 1: Digi-Key; Supplier Part Number 1: 160-1413-2-ND; PACKAGE: SMD_0805
footprint SMD_0805 (Generic 0805 SMD footprint)
pins: 1 A, 2 K

## LP38693MP-3.3/NOPB
designator U?
3V3 LINEAR REGULATOR; TI: LP38693MP-3.3/NOPB
footprint SOT-223-5 (SOT223, 4-Leads, Body 6,7x7,3mm (max), Pitch 2,30mm, IPC High Density)
pins: 1 VEN, 2 NC, 3 VOUT, 4 VIN, 5 GND

## LP38693MP-5.0/NOPB
designator U?
5V LINEAR REGULATOR; TI: LP38693MP-5.0/NOPB
footprint SOT-223-5 (SOT223, 4-Leads, Body 6,7x7,3mm (max), Pitch 2,30mm, IPC High Density)
pins: 1 VEN, 2 NC, 3 VOUT, 4 VIN, 5 GND

## LQH32CN100K33L
designator L?
IND WIREWOUND 10uH 450mA 10% 26MHz; MURATA: LQH32CN100K33L
footprint LQH32CN100K33L (MURATA INDUCTOR SERIES)
pins: 1, 2

## NET TIE 2
designator NT?  (value not drawn)  (net tie, no BOM)
NET TIE 2
footprint NETTIE_2_MULTILAYER 1.27mm x 0.61mm
footprint NETTIE_2_SINGLELAYER 1.27mm x 0.61mm
footprint NET_TIE_SINGLKE_LAYER_01
footprint NET_TIE_SINGLKE_LAYER_02
pins: 1, 2
1 alternate drawing of the same symbol
text: NT

## OPTOISO 4N25 2.5KV TRANS W/BASE 6DIP
designator U?, comment 4N25
Optoisolator Transistor with Base Output 2500Vrms 1 Channel 6-DIP; VISHAY: 4N25; Supplier 1: Digi-Key; Supplier 2: Digi-Key; Supplier 3: Digi-Key; Supplier 4: Farnell; Supplier 5: Farnell; Supplier 6: Allied; Supplier 7: Newark; Supplier Part Number 2: 160-1300-5-ND; Supplier Part Number 3: 4N25VS-ND; Supplier Part Number 4: 1612453; Supplier Part Number 5: 1225849; Supplier Part Number 6: 70061823; Supplier Part Number 7: 88K1384; Supplier Part Number 1: 4N25SHORTFT-ND
footprint DIP-6 (OPTO)
footprint DIP-6 (OPTO)
pins: 1, 2, 3, 4, 5, 6

## PAD
designator P?  (value not drawn)  (no BOM)
footprint TESTE POINT
pins: 1

## PIC18F14K50-I/P
designator U?
uC; MICROSHIP: PIC18F14K50-I/P
pins: 1 VDD, 2 RA5/OSC1/CLKIN (in), 3 RA4/AN3/OSC2/CLKOUT (in), 4 RA3/~{MCLR}/VPP, 5 RC5/CCP1/P1A/T0CKL, 6 RC4/P1B/C12OUT/SRQ, 7 RC3/AN7/P1C/C12IN3, 8 RC6/AN8/~{SS}/T13CKL, 9 RC7/AN9/SDO/T1OSCO, 10 RB7/TX/CK, 11 RB6/SCK/SCL, 12 RB5/AN11/RX/DT (in), 13 RB4/AN10/SDI/SDA, 14 RC2/AN6/P1D/C12IN2, 15 RC1/AN5/C12IN-/INT1, 16 RC0/AN4/C12IN+/INT0, 17 VUSB, 18 RA1/D-/PGC, 19 RA0/D+/PGD, 20 VSS

## PIC18F26J50-I/SO
designator U?
uC; MICROSHIP: PIC18F26J50-I/SO
footprint DIP-28
pins: 1 ~{MCLR} (in), 2 RA0/AN0/C1NA/ULPWU/RP0, 3 RA1/AN1/C2INA/RP1, 4 RA2/AN2/VREF-/CVREF/C2INB, 5 RA3/AN3/VREF+/C1INB, 6 VDDCORE/VCAP(2), 7 RA5/AN4/SS1/HLVDIN/RCV/RP2, 8 VSS, 9 OSC1/CLKI/RA7, 10 OSC2/CLKO/RA6, 11 RC0/T1OSO/T1CKI/RP11, 12 RC1/T1OSI/UOE/RP12, 13 RC2/AN11/CTPLS/RP13, 14 VUSB , 15 RC4/D-/VM, 16 RC5/D+/VP, 17 RC6/TX1/CK1/RP17, 18 RC7/RX1/DT1/SDO1/RP18, 19 VSS , 20 VDD  (in), 21 RB0/AN12/INT0/RP3, 22 RB1/AN10/RTCC/RP4 , 23 RB2/AN8/CTEDG1/VMO/REFO/RP5 , 24 RB3/AN9/CTEDG2/VPO/RP6  (in), 25 RB4/KBI0/SCK1/SCL1/RP7 , 26 RB5/KBI1/SDI1/SDA1/RP8 , 27 RB6/KBI2/PGC/RP9 , 28 RB7/KBI3/PGD/RP10 
text: USB

## RES 0R010 SMD OAR TT ELETRONICS 5W
designator R?, comment 0R010
OAR 0R010 SMD 5W 1% 40PPM SENSE RESISTOR; TT ELETRONICS: OARS-XP-R010-F-LF; MOUSER LINK: http://br.mouser.com/ProductDetail/IRC/OARSXPR010FLF/?qs=sGAEpiMZZMvrW%2ffo9sIoW%252bIzhbw9FH4L
footprint OARSXP (SMD SENSE RESISTOR TT ELETRONICS SERIES)
pins: 1, 2

## RES FILME METALICO 10R / 1W
designator R?  (value not drawn)
footprint RES-DO-41 (DO-41)
pins: 1, 2

## RES FILME METALICO 120R / 2W
designator R?  (value not drawn)
footprint RES-DO-41 (DO-41)
pins: 1, 2

## RES GENERIC
designator R?  (value not drawn)
footprint RES-DO-41 (DO-41)
pins: 1, 2

## RES SMD 0 OHM JUMPER 1/10W 0603
designator R?, comment 0R
0 Ohms Jumper 0.1W, 1/10W Chip Resistor 0603 (1608 Metric) Automotive AEC-Q200 Thick Film; Manufacturer Part Number 1: ERJ-3GEY0R00V; Manufacturer 1: Panasonic Electronic Components
footprint SMD_0603 (General SMD 0603 footprint)
pins: 1, 2

## RES SMD 0R1 1% 1/4W 0805
designator R?, comment 0R1
100 mOhms ±1% 0.25W, 1/4W Chip Resistor 0805 (2012 Metric) Automotive AEC-Q200, Current Sense Thick Film; Manufacturer 1: Panasonic Electronic Components; Manufacturer Part Number 1: ERJ-L06KF10CV; VALUE: 0R10 1%
footprint SMD_0805 (Generic 0805 SMD footprint)
pins: 1, 2

## RES SMD 1K2R 1% 3/4W 1206
designator R?, comment 1K2
1.2 kOhms ±1% 0.75W, 3/4W Chip Resistor 1206 (3216 Metric) Automotive AEC-Q200, Pulse Withstanding Thick Film; Manufacturer 1: Vishay Dale; Manufacturer Part Number 1: CRCW12061K20FKEAHP
footprint SMD_1210 (General SMD 1210 footprint)
pins: 1, 2

## RES SMD 1K5R 1% 1/8W 0805
designator R?, comment 1k5R
1.5 kOhms ±1% 0.125W, 1/8W Chip Resistor 0805 (2012 Metric) Automotive AEC-Q200 Thick Film; Manufacturer 1: Stackpole Electronics Inc; Manufacturer Part Number 1: RMCF0805FT1K50
footprint SMD_0805 (Generic 0805 SMD footprint)
pins: 1, 2

## RES SMD 1K5R 1% 1/10W 0603
designator R?, comment 1K5
1.5 kOhms ±1% 0.1W, 1/10W Chip Resistor 0603 (1608 Metric)  Thick Film; Manufacturer Part Number 1: CRCW06031K50FKEAC; Manufacturer 1: Vishay Dale
footprint SMD_0603 (General SMD 0603 footprint)
pins: 1, 2

## RES SMD 1K27R 1% 1/4W 0603
designator R?, comment 1K27
1.27 kOhms ±1% 0.25W, 1/4W Chip Resistor 0603 (1608 Metric) Automotive AEC-Q200, Pulse Withstanding Thick Film; Manufacturer 1: Vishay Dale; Manufacturer Part Number 1: CRCW06031K27FKEAHP
footprint SMD_0603 (General SMD 0603 footprint)
pins: 1, 2

## RES SMD 1KR 1% 1/2W 0805
designator R?, comment 1K
1 kOhms ±1% 0.5W, 1/2W Chip Resistor 0805 (2012 Metric) Automotive AEC-Q200, Pulse Withstanding Thick Film; Manufacturer 1: Panasonic Electronic Components; Manufacturer Part Number 1: ERJ-P6WF1001V; VALUE: 1K
footprint SMD_0805 (Generic 0805 SMD footprint)
pins: 1, 2

## RES SMD 1KR 1% 1/8W 0805
designator R?, comment 1K
1 kOhms ±1% 0.125W, 1/8W Chip Resistor 0805 (2012 Metric)  Thick Film; Manufacturer Part Number 1: CRCW08051K00FKEAC; Manufacturer 1: Vishay Dale
footprint SMD_0805 (Generic 0805 SMD footprint)
pins: 1, 2

## RES SMD 1KR 1% 1/10W 0603
designator R?, comment 1K  (value not drawn)
1 kOhms ±1% 0.1W, 1/10W Chip Resistor 0603 (1608 Metric) Automotive AEC-Q200 Thick Film; Manufacturer 1: Panasonic Electronic Components; Manufacturer Part Number 1: ERJ-3EKF1001V; VALUE: 1K 1%
footprint SMD_0603 (General SMD 0603 footprint)
pins: 1, 2

## RES SMD 1KR 5% 1/16W 0402
designator R?, comment 1K
1k Ohm ±5% 0.063W, 1/16W Chip Resistor 0402 (1005 Metric) Thick Film; Manufacturer Part Number 1: RC0402JR-071KL; Manufacturer 1: Yageo
footprint SMD_0402
pins: 1, 2

## RES SMD 1KR OHM 1% 1/10W 0402
designator R?, comment 1kR
1k Ohm ±5% 0.063W, 1/16W Chip Resistor 0402 (1005 Metric) Thick Film; Manufacturer 1: Panasonic Electronic Components; Manufacturer Part Number 1: ERJ-2RKF1001X; VALUE: 1k; Supplier 1: Digi-Key; Supplier 2: Digi-Key; Supplier 3: Digi-Key; Supplier 4: Future Electronics; Supplier 5: Future Electronics; Supplier 6: Farnell; Supplier 7: Farnell; Supplier 8: Farnell; Supplier 9: Mouser; Supplier 10: Arrow; Supplier Part Number 9: 667-ERJ-2RKF1001X; Supplier Part Number 8: 2982313; Supplier Part Number 7: 2302638; Supplier Part Number 6: 2397185; Supplier Part Number 5: ERJ-2RKF1001X-CUTT; Supplier Part Number 4: ERJ-2RKF1001X-REEL; Supplier Part Number 3: P1.00KLTR-ND; Supplier Part Number 2: P1.00KLDKR-ND; Supplier Part Number 10: ERJ-2RKF1001X; Supplier Part Number 1: P1.00KLCT-ND
footprint SMD_0402
pins: 1, 2

## RES SMD 1MR 1% 1/4W 1206
designator R?, comment 1M  (value not drawn)
1 MOhms ±1% 0.25W, 1/4W Chip Resistor 1206 (3216 Metric) Automotive AEC-Q200 Thick Film; Manufacturer 1: Panasonic Electronic Components; Manufacturer Part Number 1: ERJ-8ENF1004V; VALUE: 1M 1%
footprint SMD_1206 (General SMD 1206 footprint)
pins: 1, 2

## RES SMD 1MR 1% 1/10W 0603
designator R?, comment 1M  (value not drawn)
1 MOhms ±1% 0.1W, 1/10W Chip Resistor 0603 (1608 Metric) Automotive AEC-Q200 Thick Film; Manufacturer 1: Panasonic Electronic Components; Manufacturer Part Number 1: ERJ-3EKF1004V; VALUE: 1M
footprint SMD_0603 (General SMD 0603 footprint)
pins: 1, 2

## RES SMD 1MR 1% 3/4W 1812
designator R?, comment 1M
1 MOhms ±0.5% 0.75W, 3/4W Chip Resistor 1812 (4532 Metric) Anti-Sulfur, Automotive AEC-Q200 Thick Film; Manufacturer 1: Panasonic Electronic Components; Manufacturer Part Number 1: ERJ-U12D1004U; VALUE: 1M 1%
footprint SMD_1812 (General SMD 1812 footprint)
pins: 1, 2

## RES SMD 2.21K OHM 1% 1/8W 0805
designator R?, comment 2k21R
2.21k Ohm ±1% 0.125W, 1/8W Chip Resistor 0805 (2012 Metric) Moisture Resistant Thick Film; Manufacturer 1: Stackpole Electronics Inc; Manufacturer Part Number 1: RMCF0805FT2K21
footprint SMD_0805 (Generic 0805 SMD footprint)
pins: 1, 2

## RES SMD 2K49R 1% 1/2W 1210
designator R?, comment 2k49 0,5W
2.49 kOhms ±1% 0.5W, 1/2W Chip Resistor 1210 (3225 Metric) Automotive AEC-Q200, Pulse Withstanding Thick Film; Manufacturer 1: Panasonic Electronic Components; Manufacturer Part Number 1: ERJ-P14F2491U
footprint SMD_1210 (General SMD 1210 footprint)
pins: 1, 2

## RES SMD 2K49R 1% 1/4W 1206
designator R?, comment 2K49
2.49 kOhms ±1% 0.25W, 1/4W Chip Resistor 1206 (3216 Metric) Automotive AEC-Q200, High Voltage Thick Film; Manufacturer 1: Rohm Semiconductor; Manufacturer Part Number 1: KTR18EZPF2491; VALUE: 2K49
pins: 1, 2

## RES SMD 2K49R 1% 1/10W 0603
designator R?, comment 2K49
2.49 kOhms ±1% 0.1W, 1/10W Chip Resistor 0603 (1608 Metric)  Thick Film; Manufacturer 1: Vishay Dale; Manufacturer Part Number 1: CRCW06032K49FKEAC; VALUE: 2K49 1%
footprint SMD_0603 (General SMD 0603 footprint)
pins: 1, 2

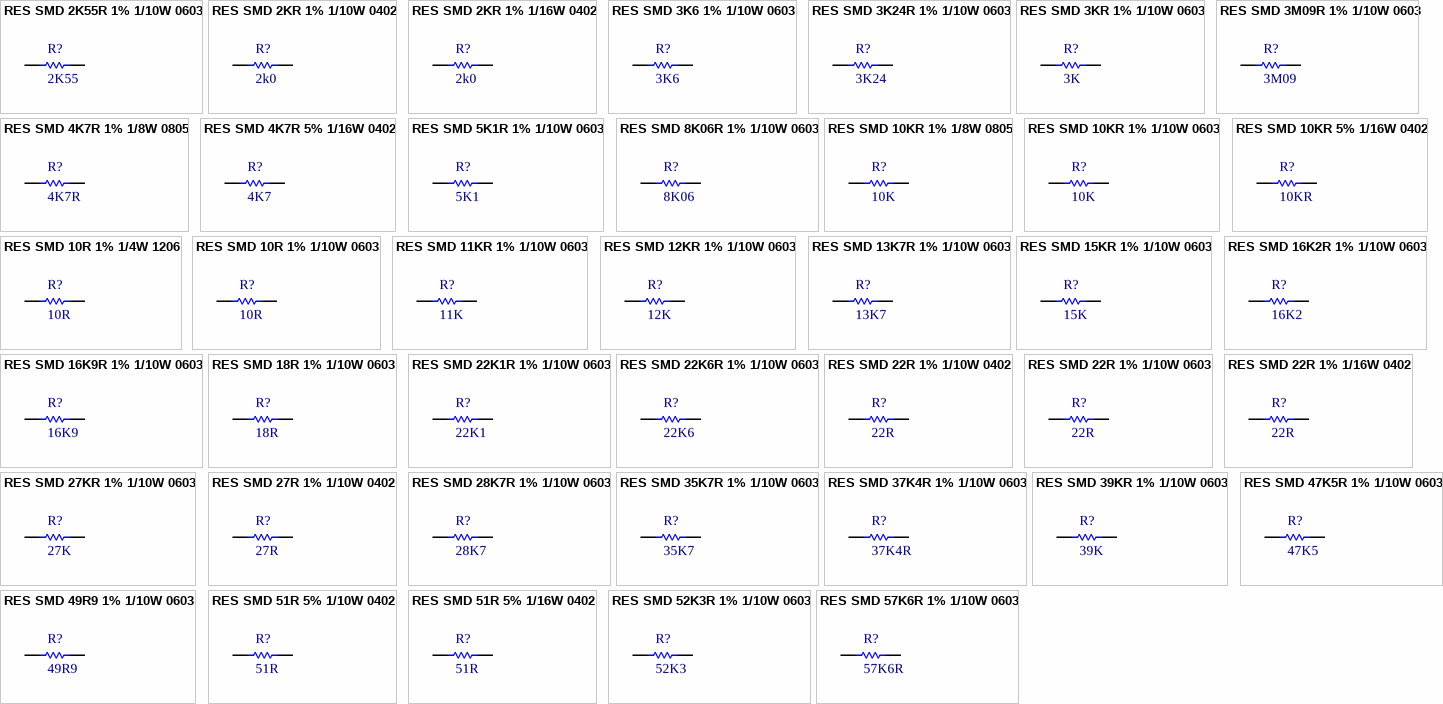
[diagram p5: symbols RES SMD 2K55R 1% 1/10W 0603 to RES SMD 57K6R 1% 1/10W 0603]

## RES SMD 2K55R 1% 1/10W 0603
designator R?, comment 2K55
2.55 kOhms ±1% 0.1W, 1/10W Chip Resistor 0603 (1608 Metric) Automotive AEC-Q200 Thick Film; Manufacturer 1: Stackpole Electronics Inc; Manufacturer Part Number 1: RMCF0603FT2K55; VALUE: 2K55 1%
footprint SMD_0603 (General SMD 0603 footprint)
pins: 1, 2

## RES SMD 2KR 1% 1/10W 0402
designator R?, comment 2k0
2 kOhms ±1% 0.1W, 1/10W Chip Resistor 0402 (1005 Metric) Automotive AEC-Q200 Thick Film; Manufacturer 1: Panasonic Electronic Components; Manufacturer Part Number 1: ERJ-2RKF2001X; VALUE: 2k0; Supplier 1: Digi-Key; Supplier 2: RSComponents; Supplier 3: Digi-Key; Supplier 4: Digi-Key; Supplier 5: Digi-Key; Supplier 6: RSComponents; Supplier 7: Digi-Key; Supplier 8: Digi-Key; Supplier 9: Digi-Key; Supplier Part Number 1: P2.00KLCT-ND; Supplier Part Number 2: 7325365; Supplier Part Number 3: P2.00KLDKR-ND; Supplier Part Number 4: 749-1560-1-ND; Supplier Part Number 5: P2.00KLTR-ND; Supplier Part Number 6: 732-5365; Supplier Part Number 7: 749-1560-2-ND; Supplier Part Number 8: ERJ-S02F2001X-ND; Supplier Part Number 9: 749-1560-6-ND
footprint SMD_0402
pins: 1, 2

## RES SMD 2KR 1% 1/16W 0402
designator R?, comment 2k0
2k Ohm ±1% 0.063W, 1/16W Chip Resistor 0402 (1005 Metric) Automotive AEC-Q200 Thick Film; Manufacturer 1: Yageo; Manufacturer Part Number 1: RC0402FR-072KL; VALUE: 2k0
footprint SMD_0402
pins: 1, 2

## RES SMD 3K6 1% 1/10W 0603
designator R?, comment 3K6
3.6 kOhms ±1% 0.1W, 1/10W Chip Resistor 0603 (1608 Metric) Automotive AEC-Q200 Thick Film; Manufacturer Part Number 1: ERJ-3EKF3601V; Manufacturer 1: Panasonic Electronic Components
footprint SMD_0603 (General SMD 0603 footprint)
pins: 1, 2

## RES SMD 3K24R 1% 1/10W 0603
designator R?, comment 3K24
3.24 kOhms ±1% 0.1W, 1/10W Chip Resistor 0603 (1608 Metric) Automotive AEC-Q200 Thick Film; Manufacturer 1: Vishay Dale; Manufacturer Part Number 1: CRCW06033K24FKEA
footprint SMD_0603 (General SMD 0603 footprint)
pins: 1, 2

## RES SMD 3KR 1% 1/10W 0603
designator R?, comment 3K
3 kOhms ±1% 0.1W, 1/10W Chip Resistor 0603 (1608 Metric)  Thick Film; Manufacturer Part Number 1: CRCW06033K00FKEAC; Manufacturer 1: Vishay Dale; VALUE: 3K0R 1%
footprint SMD_0603 (General SMD 0603 footprint)
pins: 1, 2

## RES SMD 3M09R 1% 1/10W 0603
designator R?, comment 3M09
3.09 MOhms ±1% 0.1W, 1/10W Chip Resistor 0603 (1608 Metric) Automotive AEC-Q200 Thick Film; Manufacturer Part Number 1: RMCF0603FT3M09; Manufacturer 1: Stackpole Electronics Inc; VALUE: 3.09M
footprint SMD_0603 (General SMD 0603 footprint)
pins: 1, 2

## RES SMD 4K7R 1% 1/8W 0805
designator R?, comment 4K7R
4.7 kOhms ±1% 0.125W, 1/8W Chip Resistor 0805 (2012 Metric) Moisture Resistant Thick Film; Manufacturer 1: Yageo; Manufacturer Part Number 1: RC0805FR-074K7P
footprint SMD_0805 (Generic 0805 SMD footprint)
pins: 1, 2

## RES SMD 4K7R 5% 1/16W 0402
designator R?, comment 4K7
4.7 kOhms ±5% 0.063W, 1/16W Chip Resistor 0402 (1005 Metric) Moisture Resistant Thick Film; Manufacturer 1: Yageo; Manufacturer Part Number 1: RC0402JR-074K7L
footprint SMD_0402
pins: 1, 2

## RES SMD 5K1R 1% 1/10W 0603
designator R?, comment 5K1
5.1 kOhms ±1% 0.1W, 1/10W Chip Resistor 0603 (1608 Metric) Automotive AEC-Q200 Thick Film; Manufacturer 1: Stackpole Electronics Inc; Manufacturer Part Number 1: RMCF0603FT5K10; VALUE: 5k1
footprint SMD_0603 (General SMD 0603 footprint)
pins: 1, 2

## RES SMD 8K06R 1% 1/10W 0603
designator R?, comment 8K06
8.06 kOhms ±1% 0.1W, 1/10W Chip Resistor 0603 (1608 Metric) Automotive AEC-Q200 Thick Film; Manufacturer Part Number 1: CRCW06038K06FKEA; Manufacturer 1: Vishay Dale; VALUE: 8K06 1%
footprint SMD_0603 (General SMD 0603 footprint)
pins: 1, 2

## RES SMD 10KR 1% 1/8W 0805
designator R?, comment 10K
10 kOhms ±1% 0.125W, 1/8W Chip Resistor 0805 (2012 Metric) Automotive AEC-Q200 Thick Film; Manufacturer Part Number 1: CRCW080510K0FKEA; Manufacturer 1: Vishay Dale
footprint SMD_0805 (Generic 0805 SMD footprint)
pins: 1, 2

## RES SMD 10KR 1% 1/10W 0603
designator R?, comment 10K
10 kOhms ±1% 0.1W, 1/10W Chip Resistor 0603 (1608 Metric) Automotive AEC-Q200 Thick Film; Part Number 1: ERJ-3EKF1002V; Manufacturer 1: Panasonic Electronic Components; VALUE: 10K
footprint SMD_0603 (General SMD 0603 footprint)
pins: 1, 2

## RES SMD 10KR 5% 1/16W 0402
designator R?, comment 10KR
10 kOhms ±5% 0.063W, 1/16W Chip Resistor 0402 (1005 Metric) Moisture Resistant Thick Film; Manufacturer 1: Yageo; Manufacturer Part Number 1: RC0402JR-0710KL; VALUE: 10K
footprint SMD_0402
pins: 1, 2

## RES SMD 10R 1% 1/4W 1206
designator R?, comment 10R
10 Ohms ±1% 0.25W, 1/4W Chip Resistor 1206 (3216 Metric) Automotive AEC-Q200 Thick Film; Manufacturer 1: Stackpole Electronics Inc; Manufacturer Part Number 1: RMCF1206FT10R0; VALUE: 10R
footprint SMD_1206 (General SMD 1206 footprint)
pins: 1, 2

## RES SMD 10R 1% 1/10W 0603
designator R?, comment 10R
10 Ohms ±1% 0.1W, 1/10W Chip Resistor 0603 (1608 Metric) Automotive AEC-Q200 Thick Film; Manufacturer 1: Panasonic Electronic Components; Manufacturer Part Number 1: ERJ-3EKF10R0V; VALUE: 10R 1%
footprint SMD_0603 (General SMD 0603 footprint)
pins: 1, 2

## RES SMD 11KR 1% 1/10W 0603
designator R?, comment 11K
11 kOhms ±1% 0.1W, 1/10W Chip Resistor 0603 (1608 Metric) Automotive AEC-Q200 Thick Film; Manufacturer 1: Vishay Dale; Manufacturer Part Number 1: CRCW060311K0FKEA
footprint SMD_0603 (General SMD 0603 footprint)
pins: 1, 2

## RES SMD 12KR 1% 1/10W 0603
designator R?, comment 12K
12 kOhms ±1% 0.1W, 1/10W Chip Resistor 0603 (1608 Metric) Automotive AEC-Q200 Thick Film; Manufacturer Part Number 1: ERJ-3EKF1202V; Manufacturer 1: Panasonic Electronic Components
footprint SMD_0603 (General SMD 0603 footprint)
pins: 1, 2

## RES SMD 13K7R 1% 1/10W 0603
designator R?, comment 13K7
13.7 kOhms ±1% 0.1W, 1/10W Chip Resistor 0603 (1608 Metric) Automotive AEC-Q200 Thick Film; Manufacturer 1: Stackpole Electronics Inc; Manufacturer Part Number 1: RMCF0603FT13K7
footprint SMD_0603 (General SMD 0603 footprint)
pins: 1, 2

## RES SMD 15KR 1% 1/10W 0603
designator R?, comment 15K
15 kOhms ±1% 0.1W, 1/10W Chip Resistor 0603 (1608 Metric) Automotive AEC-Q200 Thick Film; Manufacturer 1: Panasonic Electronic Components; Manufacturer Part Number 1: ERJ-3EKF1502V
footprint SMD_0603 (General SMD 0603 footprint)
pins: 1, 2

## RES SMD 16K2R 1% 1/10W 0603
designator R?, comment 16K2
16.2 kOhms ±1% 0.1W, 1/10W Chip Resistor 0603 (1608 Metric) Automotive AEC-Q200 Thick Film; Manufacturer 1: Vishay Dale; Manufacturer Part Number 1: CRCW060316K2FKEA; VALUE: 16K2 1%
footprint SMD_0603 (General SMD 0603 footprint)
pins: 1, 2

## RES SMD 16K9R 1% 1/10W 0603
designator R?, comment 16K9
16.9 kOhms ±1% 0.1W, 1/10W Chip Resistor 0603 (1608 Metric) Automotive AEC-Q200 Thick Film; Manufacturer Part Number 1: ERJ-3EKF1692V; Manufacturer 1: Panasonic Electronic Components; VALUE: 16K9 1%
footprint SMD_0603 (General SMD 0603 footprint)
pins: 1, 2

## RES SMD 18R 1% 1/10W 0603
designator R?, comment 18R
18 Ohms ±1% 0.1W, 1/10W Chip Resistor 0603 (1608 Metric) Moisture Resistant Thick Film; Manufacturer Part Number 1: RC0603FR-0718RL; Manufacturer 1: Yageo
footprint SMD_0603 (General SMD 0603 footprint)
pins: 1, 2

## RES SMD 22K1R 1% 1/10W 0603
designator R?, comment 22K1
22.1 kOhms ±1% 0.1W, 1/10W Chip Resistor 0603 (1608 Metric) Automotive AEC-Q200 Thick Film; Manufacturer Part Number 1: CRCW060322K1FKEA; Manufacturer 1: Vishay Dale
footprint SMD_0603 (General SMD 0603 footprint)
pins: 1, 2

## RES SMD 22K6R 1% 1/10W 0603
designator R?, comment 22K6
22.6 kOhms ±1% 0.1W, 1/10W Chip Resistor 0603 (1608 Metric) Automotive AEC-Q200 Thick Film; Manufacturer 1: Vishay Dale; VISHAY: CRCW060322K6FKEA; Manufacturer Part Number 1: CRCW060322K6FKEA
footprint SMD_0603 (General SMD 0603 footprint)
pins: 1, 2

## RES SMD 22R 1% 1/10W 0402
designator R?, comment 22R
22 Ohm ±1% 0.1W, 1/10W Chip Resistor 0402 (1005 Metric) Automotive AEC-Q200 Thick Film; Manufacturer 1: Panasonic Electronic Components; Manufacturer Part Number 1: ERJ-2RKF22R0X
footprint SMD_0402
pins: 1, 2

## RES SMD 22R 1% 1/10W 0603
designator R?, comment 22R
22 Ohms ±1% 0.1W, 1/10W Chip Resistor 0603 (1608 Metric) Automotive AEC-Q200 Thick Film; Manufacturer Part Number 1: ERJ-3EKF22R0V; Manufacturer 1: Panasonic Electronic Components
footprint SMD_0603 (General SMD 0603 footprint)
pins: 1, 2

## RES SMD 22R 1% 1/16W 0402
designator R?, comment 22R
22 Ohm ±1% 0.063W, 1/16W Chip Resistor 0402 (1005 Metric) Moisture Resistant Thick Film; Manufacturer 1: Bourns Inc.; Manufacturer Part Number 1: CR0402-FX-22R0GLF; VALUE: 22R
footprint SMD_0402
pins: 1, 2

## RES SMD 27KR 1% 1/10W 0603
designator R?, comment 27K
27 kOhms ±1% 0.1W, 1/10W Chip Resistor 0603 (1608 Metric) Automotive AEC-Q200 Thick Film; Manufacturer Part Number 1: ERJ-3EKF2702V; Manufacturer 1: Panasonic Electronic Components; VALUE: 27K 1%
footprint SMD_0603 (General SMD 0603 footprint)
pins: 1, 2

## RES SMD 27R 1% 1/10W 0402
designator R?, comment 27R
27 Ohm ±1% 0.1W, 1/10W Chip Resistor 0402 (1005 Metric) Automotive AEC-Q200 Thick Film; Manufacturer 1: Panasonic Electronic Components; Manufacturer Part Number 1: ERJ-2RKF27R0X; VALUE: 27R
footprint SMD_0402
pins: 1, 2

## RES SMD 28K7R 1% 1/10W 0603
designator R?, comment 28K7
28.7 kOhms ±1% 0.1W, 1/10W Chip Resistor 0603 (1608 Metric) Automotive AEC-Q200 Thick Film; Manufacturer 1: Vishay Dale; Manufacturer Part Number 1: CRCW060328K7FKEA
footprint SMD_0603 (General SMD 0603 footprint)
pins: 1, 2

## RES SMD 35K7R 1% 1/10W 0603
designator R?, comment 35K7
35.7 kOhms ±1% 0.1W, 1/10W Chip Resistor 0603 (1608 Metric) Automotive AEC-Q200 Thick Film; Manufacturer Part Number 1: ERJ-3EKF3572V; Manufacturer 1: Panasonic Electronic Components; VALUE: 35K7 1%
footprint SMD_0603 (General SMD 0603 footprint)
pins: 1, 2

## RES SMD 37K4R 1% 1/10W 0603
designator R?, comment 37K4R
37.4 kOhms ±1% 0.1W, 1/10W Chip Resistor 0603 (1608 Metric) Automotive AEC-Q200 Thick Film; Manufacturer 1: Panasonic Electronic Components; Manufacturer Part Number 1: ERJ-3EKF3742V; VALUE: 37K4 1%
footprint SMD_0603 (General SMD 0603 footprint)
pins: 1, 2

## RES SMD 39KR 1% 1/10W 0603
designator R?, comment 39K
39 kOhms ±1% 0.1W, 1/10W Chip Resistor 0603 (1608 Metric) Automotive AEC-Q200 Thick Film; Manufacturer 1: Stackpole Electronics Inc; Manufacturer Part Number 1: RMCF0603FT39K0; VALUE: 39K 1%
footprint SMD_0603 (General SMD 0603 footprint)
pins: 1, 2

## RES SMD 47K5R 1% 1/10W 0603
designator R?, comment 47K5
47.5 kOhms ±1% 0.1W, 1/10W Chip Resistor 0603 (1608 Metric)  Thick Film; Manufacturer 1: Vishay Dale; Manufacturer Part Number 1: CRCW060347K5FKEAC
footprint SMD_0603 (General SMD 0603 footprint)
pins: 1, 2